# EAGLE library part ATTINY85-20SU (library ATTINY85-20SU)
Check availability <https://pricing.snapeda.com/parts/ATTINY85-20SU/Microchip%20Technology%20/%20Atmel/view-part?ref=eda>
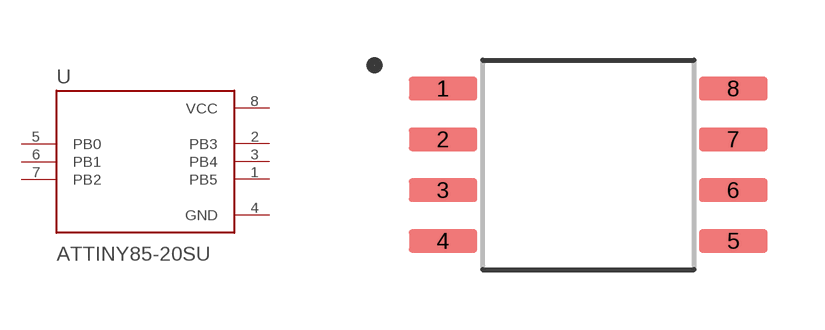
[diagram p0: symbol with the pads of SOIC127P798X216-8N; footprint SOIC127P798X216-8N]

Designator prefix U

## ATTINY85-20SU (AVAILABILITY: In Stock; CHECK_PRICES: https://www.snapeda.com/parts/ATTINY85-20SU/Microchip/view-part/?ref=eda; DESCRIPTION: AVR AVR® ATtiny, Functional Safety (FuSa) Microcontroller IC 8-Bit 20MHz 8KB (4K x 16) FLASH 8-SOIC; MF: Microchip Technology / Atmel; MP: ATTINY85-20SU; PACKAGE: SOIC-8 Microchip; PRICE: None; SNAPEDA_LINK: https://www.snapeda.com/parts/ATTINY85-20SU/Microchip/view-part/?ref=snap)  [SOIC127P798X216-8N]
1  PB5
2  PB3
3  PB4
4  GND  pwr
5  PB0
6  PB1
7  PB2
8  VCC  pwr

## Footprint SOIC127P798X216-8N (pad centres in mm)
smd 1.71 x 0.58: 1 -3.63,1.905; 2 -3.63,0.635; 3 -3.63,-0.635; 4 -3.63,-1.905; 5 3.63,-1.905; 6 3.63,-0.635; 7 3.63,0.635; 8 3.63,1.905